# Altium footprint library Mini-Circuits.PcbLib: 45 footprints (part 3 of 3)
Each footprint in its own frame and in the unit in brackets; x right, y up, seen from the top. Pads: shape width x height; smd on the part's side, far side on the other; paste and mask are expansions set on the pad; w line width, h text height; cw(c..) or ccw(c..) is an arc to the next point about the centre after c.
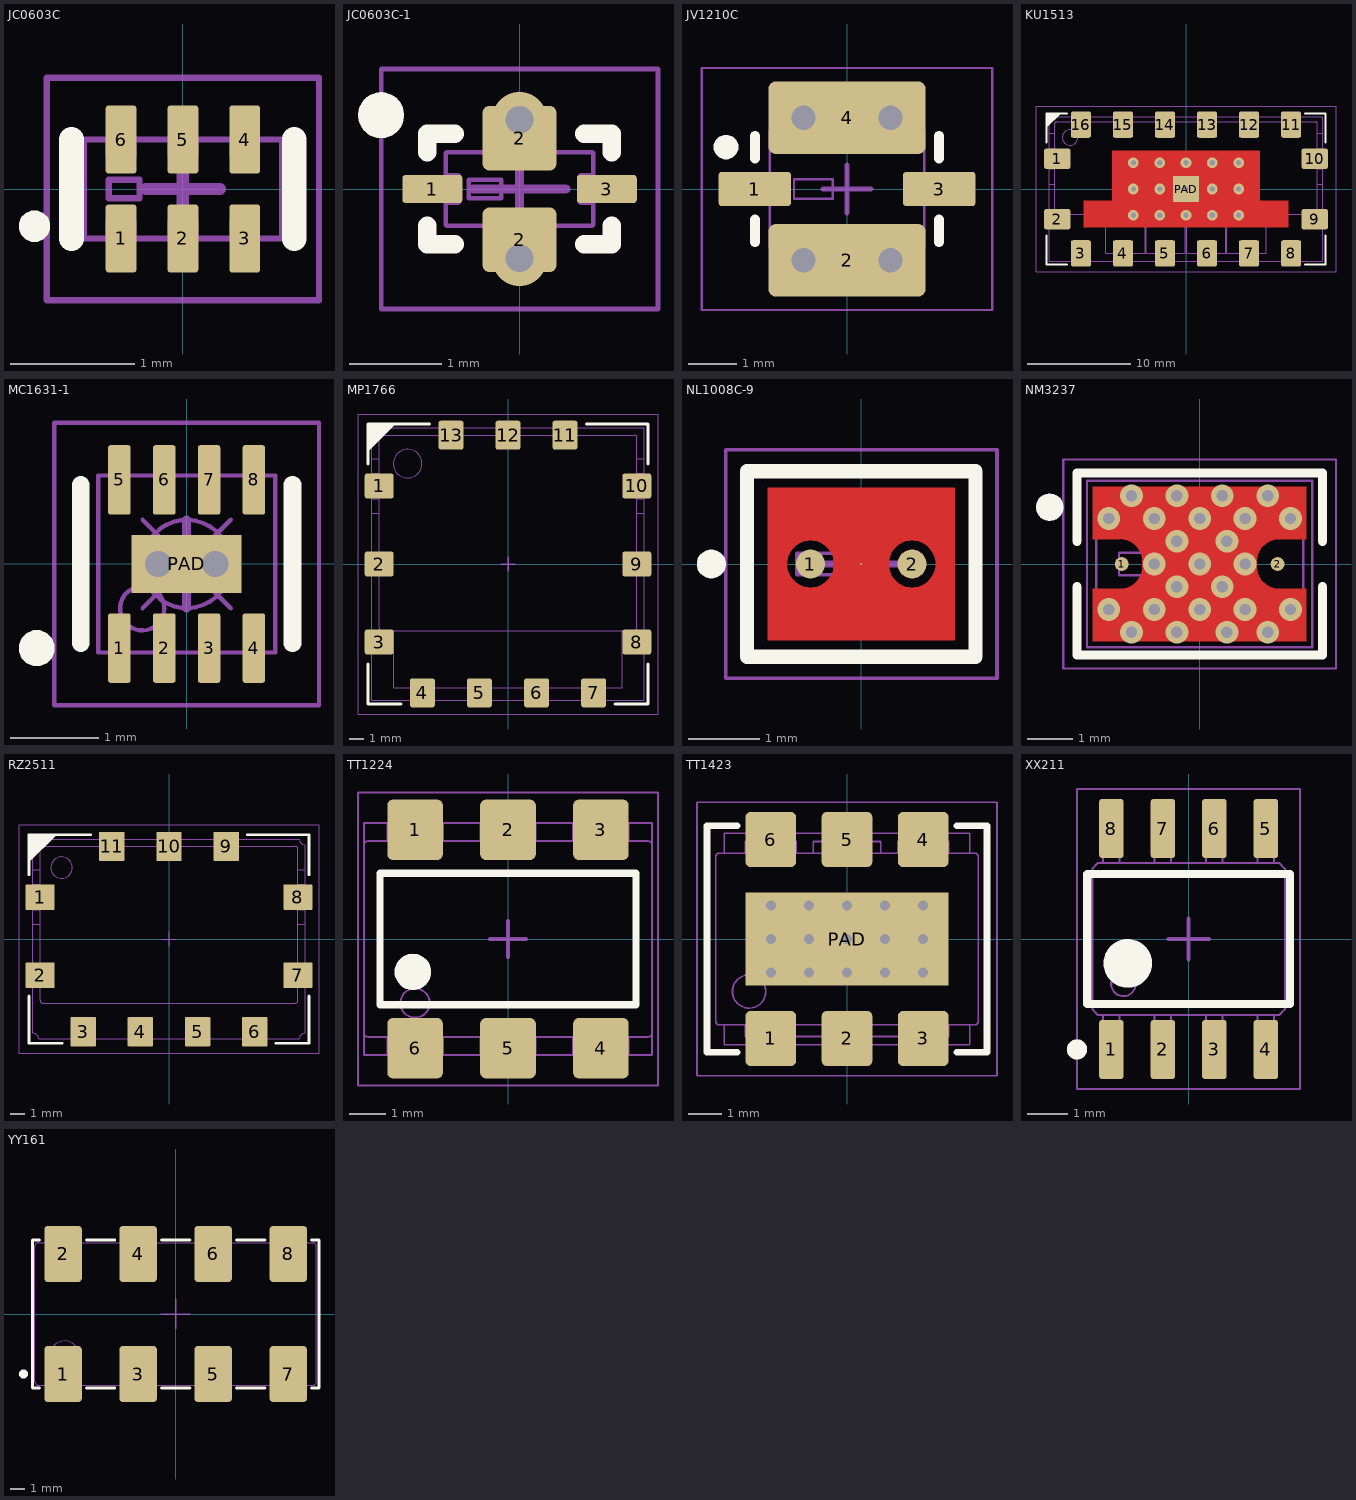
[diagram p2: the footprints below, top view; thin cyan lines are the x and y axes]

## JC0603C [mm] "Mini-Circuits JC0603C Package, 1.60x0.80mm, 6-Leads"
height 0.6
pads (6):
  rrect20% 0.25x0.55 smd: 1(-0.5,-0.4) 2(0,-0.4) 3(0.5,-0.4) 4(0.5,0.4) 5(0,0.4) 6(-0.5,0.4)
Top Overlay:
  region: -1.2,-0.425 -1.225,-0.425 -1.271,-0.406 -1.306,-0.371 -1.325,-0.325 -1.325,-0.3 -1.325,-0.275 -1.306,-0.229 -1.271,-0.194 -1.225,-0.175 -1.2,-0.175 -1.175,-0.175 -1.129,-0.194 -1.094,-0.229 -1.075,-0.275 -1.075,-0.3 -1.075,-0.325 -1.094,-0.371 -1.129,-0.406 -1.175,-0.425
  lines w0.2: -0.9,-0.4 -0.9,0.4 ; 0.9,-0.4 0.9,0.4
Mechanical 1:
  lines w0.05: -0.6,-0.4 -0.6,-0.275 cw(c-0.575,-0.275) -0.575,-0.25 -0.425,-0.25 cw(c-0.425,-0.275) -0.4,-0.275 -0.4,-0.4 ; -0.6,0.4 -0.6,0.275 ccw(c-0.575,0.275) -0.575,0.25 -0.425,0.25 ccw(c-0.425,0.275) -0.4,0.275 -0.4,0.4 ; -0.1,-0.4 -0.1,-0.275 cw(c-0.075,-0.275) -0.075,-0.25 0.075,-0.25 cw(c0.075,-0.275) 0.1,-0.275 0.1,-0.4 ; -0.1,0.4 -0.1,0.275 ccw(c-0.075,0.275) -0.075,0.25 0.075,0.25 ccw(c0.075,0.275) 0.1,0.275 0.1,0.4 ; 0.4,-0.4 0.4,-0.275 cw(c0.425,-0.275) 0.425,-0.25 0.575,-0.25 cw(c0.575,-0.275) 0.6,-0.275 0.6,-0.4 ; 0.4,0.4 0.4,0.275 ccw(c0.425,0.275) 0.425,0.25 0.575,0.25 ccw(c0.575,0.275) 0.6,0.275 0.6,0.4 ; -0.8,-0.39 ccw(c-0.79,-0.39) -0.79,-0.4 0.79,-0.4 ccw(c0.79,-0.39) 0.8,-0.39 0.8,0.39 ccw(c0.79,0.39) 0.79,0.4 -0.79,0.4 ccw(c-0.79,0.39) -0.8,0.39 -0.8,-0.39 ; -0.6,-0.075 -0.35,-0.075 -0.35,0.075 -0.6,0.075 -0.6,-0.075
Mechanical 15:
  lines w0.05: -1.1,-0.9 -1.1,0.9 1.1,0.9 1.1,-0.9 -1.1,-0.9
  lines w0.1: -0.3,0 0.3,0 ; 0,-0.3 0,0.3
3D body "Mini-Circuits_JC0603C.STEP": height 0.6, standoff 0, extent -0.8,-0.4 0.8,0.4

## JC0603C-1 [mm] "Mini-Circuits JC0603C-1 Case, 1.60x0.80mm, 4-Leads"
height 0.6
pads (5):
  rrect20% 0.65x0.3 smd: 1(-0.945,0) 3(0.945,0)
  rrect20% 0.8x0.7 smd: 2(0,-0.55) 2(0,0.55)
  round 0.5 on Top Overlay: ""(-1.5,0.8)
via 0,-0.75 diameter 0.6 hole 0.3
via 0,0.75 diameter 0.6 hole 0.3
Top Overlay:
  lines w0.2: -1,-0.4 -1,-0.6 -0.7,-0.6 ; -1,0.4 -1,0.6 -0.7,0.6 ; 0.7,-0.6 1,-0.6 1,-0.4 ; 0.7,0.6 1,0.6 1,0.4
Mechanical 1:
  lines w0.05: -0.8,-0.15 -0.675,-0.15 ccw(c-0.675,-0.125) -0.65,-0.125 -0.65,0.125 ccw(c-0.675,0.125) -0.675,0.15 -0.8,0.15 ; -0.35,-0.4 -0.35,-0.275 cw(c-0.325,-0.275) -0.325,-0.25 0.325,-0.25 cw(c0.325,-0.275) 0.35,-0.275 0.35,-0.4 ; -0.35,0.4 -0.35,0.275 ccw(c-0.325,0.275) -0.325,0.25 0.325,0.25 ccw(c0.325,0.275) 0.35,0.275 0.35,0.4 ; 0.8,-0.15 0.675,-0.15 cw(c0.675,-0.125) 0.65,-0.125 0.65,0.125 cw(c0.675,0.125) 0.675,0.15 0.8,0.15 ; -0.8,-0.375 ccw(c-0.775,-0.375) -0.775,-0.4 0.775,-0.4 ccw(c0.775,-0.375) 0.8,-0.375 0.8,0.375 ccw(c0.775,0.375) 0.775,0.4 -0.775,0.4 ccw(c-0.775,0.375) -0.8,0.375 -0.8,-0.375 ; -0.55,-0.1 -0.2,-0.1 -0.2,0.1 -0.55,0.1 -0.55,-0.1
Mechanical 15:
  lines w0.05: -1.5,-1.3 1.5,-1.3 1.5,1.3 -1.5,1.3 -1.5,-1.3
  lines w0.1: -0.5,0 0.5,0 ; 0,-0.5 0,0.5
3D body "Mini-Circuits_JC0603C-1.STEP": height 0.6, standoff 0, extent -0.8,-0.4 0.8,0.4

## JV1210C [mil] "Mini-Circuits JV1210C Package, 3.20x2.50mm, 4-Lead"
height 59.06
pads (4):
  rrect20% 59x28 smd: 1(-75,0) 3(75,0)
  rrect20% 128x59.02 smd: 2(0,-58.01) 4(0,58.01)
via -35.43,58.01 diameter 39.37 hole 19.68
via 35.43,58.01 diameter 39.37 hole 19.68
via -35.43,-58.01 diameter 39.37 hole 19.68
via 35.43,-58.01 diameter 39.37 hole 19.68
Top Overlay:
  region: -98.43,43.9 -100.38,43.9 -104,42.4 -106.77,39.63 -108.27,36.01 -108.27,32.1 -106.77,28.48 -104,25.71 -100.38,24.21 -98.43,24.21 -96.47,24.21 -92.85,25.71 -90.08,28.48 -88.58,32.1 -88.58,36.01 -90.08,39.63 -92.85,42.4 -96.47,43.9
  lines w7.87: -74.8,-43.31 -74.8,-24.8 ; -74.8,24.8 -74.8,43.31 ; 74.8,-43.31 74.8,-24.8 ; 74.8,24.8 74.8,43.31
Mechanical 1:
  lines w1.97: -63,-33 63,-33 ; -63,-12 -51,-12 -51,12 -63,12 ; -63,33 63,33 ; 63,-12 51,-12 51,12 63,12 ; -63,-47.03 ccw(c-61.03,-47.03) -61.03,-49 61.03,-49 ccw(c61.03,-47.03) 63,-47.03 63,47.03 ccw(c61.03,47.03) 61.03,49 -61.03,49 ccw(c-61.03,47.03) -63,47.03 -63,-47.03 ; -43.13,-7.87 -43.13,7.87 -11.63,7.87 -11.63,-7.87 -43.13,-7.87
Mechanical 15:
  lines w1.97: -118.11,-98.43 118.11,-98.43 118.11,98.43 -118.11,98.43 -118.11,-98.43
  lines w3.94: -19.68,0 19.68,0 ; 0,-19.68 0,19.68
3D body "Mini-Circuits_JV1210C.STEP": height 59, standoff 0, extent -63,-49 63,49

## KU1513 [mil] "Mini-Circuts KU1513 Package, 26.24x13.97mm, 16 Leads"
height 185.04
pads (17):
  rrect20% 100x77 smd: 1(-490,115) 2(-490,-115) 9(490,-115) 10(490,115)
  rrect20% 77x100 smd: 3(-400,-245) 4(-240,-245) 5(-80,-245) 6(80,-245) 7(240,-245) 8(400,-245) 11(400,245) 12(240,245) 13(80,245) 14(-80,245) 15(-240,245) 16(-400,245)
  rect 100x100 smd: PAD(0,0)
via -200,-100 diameter 40 hole 20
via -200,0 diameter 40 hole 20
via -200,100 diameter 40 hole 20
via -100,100 diameter 40 hole 20
via -100,0 diameter 40 hole 20
via -100,-100 diameter 40 hole 20
via 0,-100 diameter 40 hole 20
via 0,0 diameter 40 hole 20
via 0,100 diameter 40 hole 20
via 100,100 diameter 40 hole 20
via 100,0 diameter 40 hole 20
via 100,-100 diameter 40 hole 20
via 200,-100 diameter 40 hole 20
via 200,0 diameter 40 hole 20
via 200,100 diameter 40 hole 20
Top Layer:
  region: -390,-145 -390,-45 -280,-45 -280,145 280,145 280,-45 390,-45 390,-145
Top Overlay:
  region: -531.5,287.4 -531.5,236.22 -480.31,287.4
  lines w7.87: -531.5,-177.17 -531.5,-287.4 -452.76,-287.4 ; -531.5,177.17 -531.5,287.4 -452.76,287.4 ; -531.5,236.22 -480.31,287.4 ; 452.76,-287.4 531.5,-287.4 531.5,-177.17 ; 452.76,287.4 531.5,287.4 531.5,177.17
Mechanical 1:
  circle w1.97: c-441.26,196.26 r29.53
  lines w1.97: -520,17.5 -500.31,17.5 ; -520,76.5 -500.31,76.5 ; -520,153.5 -500.31,153.5 ; -520,212.5 -500.31,212.5 ; -305.12,-95.31 -305.12,-244.92 -155.51,-244.92 -155.51,-95.31 ; -151.57,-95.31 -151.57,-244.92 -1.97,-244.92 -1.97,-95.31 ; 1.97,-95.31 1.97,-244.92 151.57,-244.92 151.57,-95.31 ; 155.51,-95.31 155.51,-244.92 305.12,-244.92 305.12,-95.31 ; 500.31,17.5 520,17.5 ; 500.31,76.5 520,76.5 ; 500.31,153.5 520,153.5 ; 500.31,212.5 520,212.5 ; -520,-275 -520,-130.75 ccw(c-520,-115) -520,-99.25 -520,99.25 ccw(c-520,115) -520,130.75 -520,275 -415.75,275 ccw(c-400,275) -384.25,275 -255.75,275 ccw(c-240,275) -224.25,275 -95.75,275 ccw(c-80,275) -64.25,275 64.25,275 ccw(c80,275) 95.75,275 224.25,275 ccw(c240,275) 255.75,275 384.25,275 ccw(c400,275) 415.75,275 520,275 520,130.75 ccw(c520,115) 520,99.25 520,-99.25 ccw(c520,-115) 520,-130.75 520,-275 415.75,-275 ccw(c400,-275) 384.25,-275 255.75,-275 ccw(c240,-275) 224.25,-275 95.75,-275 ccw(c80,-275) 64.25,-275 -64.25,-275 ccw(c-80,-275) -95.75,-275 -224.25,-275 ccw(c-240,-275) -255.75,-275 -384.25,-275 ccw(c-400,-275) -415.75,-275 -520,-275 ; -500.31,-87.44 ccw(c-492.44,-87.44) -492.44,-95.31 492.44,-95.31 ccw(c492.44,-87.44) 500.31,-87.44 500.31,247.44 ccw(c492.44,247.44) 492.44,255.31 -492.44,255.31 ccw(c-492.44,247.44) -500.31,247.44 -500.31,-87.44
Mechanical 15:
  lines w1.97: -570.87,-314.96 -570.87,314.96 570.87,314.96 570.87,-314.96 -570.87,-314.96
  lines w3.94: -19.68,0 19.68,0 ; 0,-19.68 0,19.68
3D body "Mini-Circuits_KU1513.STEP": height 186.14, standoff 0, extent -520,-275 520,275

## MC1631-1 [mil] "Mini-Circuits MC1631-1 Packaage, 2.00x2.00mm, EP 1.25x0.65mm, 8 Leads"
height 41.34
pads (9):
  rrect20% 10x31 smd: 1(-30,-37.5) 2(-10,-37.5) 3(10,-37.5) 4(30,-37.5) 5(-30,37.5) 6(-10,37.5) 7(10,37.5) 8(30,37.5)
  rect 49x25.98 smd: PAD(0,0)
via 12.69,0 diameter 23.62 hole 11.81
via -12.69,0 diameter 23.62 hole 11.81
Top Overlay:
  region: -66.93,-45.37 -68.5,-45.37 -71.39,-44.18 -73.6,-41.96 -74.8,-39.07 -74.8,-37.5 -74.8,-35.93 -73.6,-33.04 -71.39,-30.82 -68.5,-29.63 -66.93,-29.63 -65.36,-29.63 -62.47,-30.82 -60.25,-33.04 -59.05,-35.93 -59.05,-37.5 -59.05,-39.07 -60.25,-41.96 -62.47,-44.18 -65.36,-45.37
  lines w7.87: -47.24,-35.43 -47.24,35.43 ; 47.24,-35.43 47.24,35.43
Mechanical 1:
  circle w1.97: c-19.82,-19.82 r9.84
  lines w1.97: -39.5,-39.5 -39.5,39.5 39.5,39.5 39.5,-39.5 -39.5,-39.5
Mechanical 7:
  circle w1.97: c0,0 r19.68
  lines w1.97: -19.68,-19.68 19.68,19.68 ; -19.68,19.68 19.68,-19.68
Mechanical 15:
  lines w1.97: -59.06,-62.99 -59.06,62.99 59.06,62.99 59.06,-62.99 -59.06,-62.99
  lines w3.94: -19.68,0 19.68,0 ; 0,-19.68 0,19.68
3D body "Mini-Circuits_MC1631-1.STEP": height 41, standoff 0, extent -39.5,-39.5 39.5,39.5

## MP1766 [mm] "Mini-Circuts MP1766 Package, 19.05x19.05mm, 13 Leads"
height 5.33
pads (13):
  rrect20% 2.035x1.75 smd: 1(-9.018,5.461) 2(-9.018,0) 3(-9.018,-5.461) 8(9.015,-5.461) 9(9.015,0) 10(9.015,5.461)
  rrect20% 1.75x2.035 smd: 4(-5.994,-9.018) 5(-2.007,-9.018) 6(2.007,-9.018) 7(5.994,-9.018) 11(3.988,9.017) 12(0,9.017) 13(-3.988,9.017)
Top Overlay:
  region: -9.8,9.8 -9.8,8 -8,9.8
  lines w0.2: -9.8,-7 -9.8,-9.8 -7.5,-9.8 ; -9.8,7 -9.8,9.8 -5.5,9.8 ; -9.8,8 -8,9.8 ; 5.5,9.8 9.8,9.8 9.8,7 ; 7.5,-9.8 9.8,-9.8 9.8,-7
Mechanical 1:
  circle w0.05: c-7.025,7.025 r1
  lines w0.05: -9.525,3.569 -9.025,3.569 ; -9.525,4.585 -9.025,4.585 ; -9.525,6.337 -9.025,6.337 ; -9.525,7.353 -9.025,7.353 ; -8,-4.661 -8,-8.661 8,-8.661 8,-4.661 ; 9.025,3.569 9.525,3.569 ; 9.025,4.585 9.525,4.585 ; 9.025,6.337 9.525,6.337 ; 9.025,7.353 9.525,7.353 ; -9.525,-9.525 -6.394,-9.525 cw(c-5.994,-9.525) -5.594,-9.525 -2.407,-9.525 cw(c-2.007,-9.525) -1.607,-9.525 1.607,-9.525 cw(c2.007,-9.525) 2.407,-9.525 5.594,-9.525 cw(c5.994,-9.525) 6.394,-9.525 9.525,-9.525 9.525,-5.861 cw(c9.525,-5.461) 9.525,-5.061 9.525,-0.4 cw(c9.525,0) 9.525,0.4 9.525,5.061 cw(c9.525,5.461) 9.525,5.861 9.525,9.525 4.388,9.525 cw(c3.988,9.525) 3.588,9.525 0.4,9.525 cw(c0,9.525) -0.4,9.525 -3.588,9.525 cw(c-3.988,9.525) -4.388,9.525 -9.525,9.525 -9.525,5.861 cw(c-9.525,5.461) -9.525,5.061 -9.525,0.4 cw(c-9.525,0) -9.525,-0.4 -9.525,-5.061 cw(c-9.525,-5.461) -9.525,-5.861 -9.525,-9.525 ; -9.025,-4.461 ccw(c-8.825,-4.461) -8.825,-4.661 8.825,-4.661 ccw(c8.825,-4.461) 9.025,-4.461 9.025,8.825 ccw(c8.825,8.825) 8.825,9.025 -8.825,9.025 ccw(c-8.825,8.825) -9.025,8.825 -9.025,-4.461
Mechanical 15:
  lines w0.05: -10.5,-10.5 10.5,-10.5 10.5,10.5 -10.5,10.5 -10.5,-10.5
  lines w0.1: -0.5,0 0.5,0 ; 0,-0.5 0,0.5
3D body "Mini-Circuits_MP1766.STEP": height 5.33, standoff 0, extent -9.525,-9.525 9.525,9.525

## NL1008C-9 [mil] "Mini-Circuits NL1008C-9 Package, 2.50x2.00mm, 2-Lead"
height 27.56
pads (3):
  round 16 smd: 1(-28,0) 2(28,0)
  round 1 smd: PAD(0,0)
Top Layer:
  region: 51.5,42 51.5,0 41,0 40.94,1.27 40.44,3.77 39.46,6.13 38.05,8.25 36.24,10.05 34.12,11.46 31.77,12.44 29.27,12.93 28,13 26.72,12.94 24.22,12.44 21.87,11.46 19.75,10.05 17.95,8.25 16.53,6.13 15.56,3.77 15.06,1.27 15.06,-1.27 15.55,-3.77 16.53,-6.13 17.95,-8.25 19.75,-10.05 21.87,-11.47 24.22,-12.44 26.72,-12.94 28,-13 29.27,-12.94 31.77,-12.44 34.12,-11.47 36.24,-10.05 38.05,-8.25 39.46,-6.13 40.44,-3.78 40.93,-1.28 41,0 51.5,0 51.5,-42 27.99,-42 -28,-42 -51.5,-42 -51.5,0 -41.01,-0.01 -40.95,-1.29 -40.45,-3.78 -39.47,-6.14 -38.05,-8.25 -36.25,-10.05 -34.13,-11.47 -31.77,-12.44 -29.27,-12.94 -28,-13 -26.73,-12.94 -24.23,-12.44 -21.87,-11.46 -19.75,-10.05 -17.95,-8.25 -16.54,-6.13 -15.56,-3.77 -15.07,-1.28 -15.07,1.27 -15.56,3.77 -16.54,6.13 -17.95,8.24 -19.76,10.05 -21.87,11.46 -24.23,12.44 -26.73,12.93 -28,13 -29.27,12.93 -31.77,12.44 -34.13,11.46 -36.25,10.04 -38.05,8.24 -39.46,6.12 -40.43,3.76 -40.93,1.26 -40.99,-0.01 -51.5,0 -51.5,42 -28,42 28,42
Top Overlay:
  region: -82.68,7.87 -83.71,7.87 -85.72,7.34 -87.51,6.3 -88.98,4.83 -90.01,3.04 -90.55,1.04 -90.55,-1.04 -90.01,-3.04 -88.98,-4.83 -87.51,-6.3 -85.72,-7.34 -83.71,-7.87 -82.68,-7.87 -81.64,-7.87 -79.64,-7.34 -77.84,-6.3 -76.38,-4.83 -75.34,-3.04 -74.8,-1.04 -74.8,1.04 -75.34,3.04 -76.38,4.83 -77.84,6.3 -79.64,7.34 -81.64,7.87
  lines w7.87: -62.99,-51.18 62.99,-51.18 62.99,51.18 -62.99,51.18 -62.99,-51.18
Mechanical 1:
  lines w1.97: -49.21,-39.37 -49.21,39.37 49.21,39.37 49.21,-39.37 -49.21,-39.37 ; -47.24,-37.4 -47.24,37.4 47.24,37.4 47.24,-37.4 -47.24,-37.4 ; -35.43,-5.91 -35.43,5.91 -11.81,5.91 -11.81,-5.91 -35.43,-5.91
Mechanical 15:
  lines w1.97: -74.8,-62.99 -74.8,62.99 74.8,62.99 74.8,-62.99 -74.8,-62.99
  lines w3.94: -19.68,0 19.68,0 ; 0,-19.68 0,19.68
3D body "Mini-Circuits_NL1008C-9.STEP": height 27.56, standoff 0, extent -49.21,-39.37 49.21,39.37

## NM3237 [mil] "Mini-Circuts NM3237 Package, 4.95x3.65mm, 3 Leads"
height 72.05
pads (3):
  round 12 smd: 1(-67.5,0) 2(67.5,0)
  round 1 smd: 3(0,0)
via 78.74,-39.37 diameter 19.68 hole 9.84
via 39.37,-39.37 diameter 19.68 hole 9.84
via 0,-39.37 diameter 19.68 hole 9.84
via -39.37,-39.37 diameter 19.68 hole 9.84
via -78.74,-39.37 diameter 19.68 hole 9.84
via 39.37,0 diameter 19.68 hole 9.84
via 0,0 diameter 19.68 hole 9.84
via -39.37,0 diameter 19.68 hole 9.84
via 78.74,39.37 diameter 19.68 hole 9.84
via 39.37,39.37 diameter 19.68 hole 9.84
via 0,39.37 diameter 19.68 hole 9.84
via -39.37,39.37 diameter 19.68 hole 9.84
via -78.74,39.37 diameter 19.68 hole 9.84
via -19.68,19.68 diameter 19.68 hole 9.84
via 23.62,19.68 diameter 19.68 hole 9.84
via 19.68,-19.68 diameter 19.68 hole 9.84
via -19.68,-19.68 diameter 19.68 hole 9.84
via -59.06,-59.05 diameter 19.68 hole 9.84
via -19.68,-59.05 diameter 19.68 hole 9.84
via 23.62,-59.06 diameter 19.68 hole 9.84
via 59.06,-59.05 diameter 19.68 hole 9.84
via -59.06,59.05 diameter 19.68 hole 9.84
via -19.68,59.05 diameter 19.68 hole 9.84
via 19.69,59.05 diameter 19.68 hole 9.84
via 59.06,59.05 diameter 19.68 hole 9.84
Top Layer:
  region: -92.5,-21.5 -69,-21.5 -67.09,-21.41 -63.34,-20.66 -59.81,-19.2 -56.63,-17.07 -53.93,-14.37 -51.8,-11.19 -50.34,-7.66 -49.59,-3.91 -49.5,-2 -49.5,2 -49.59,3.91 -50.34,7.66 -51.8,11.19 -53.93,14.37 -56.63,17.07 -59.81,19.2 -63.34,20.66 -67.09,21.41 -69,21.5 -92.5,21.5 -92.5,66.93 92.5,66.93 92.5,21.5 69,21.5 67.09,21.41 63.34,20.66 59.81,19.2 56.63,17.07 53.93,14.37 51.8,11.19 50.34,7.66 49.59,3.91 49.5,2 49.5,-2 49.59,-3.91 50.34,-7.66 51.8,-11.19 53.93,-14.37 56.63,-17.07 59.81,-19.2 63.34,-20.66 67.09,-21.41 69,-21.5 92.5,-21.5 92.5,-66.93 -92.5,-66.93
Top Overlay:
  region: -129.92,61.02 -131.08,61.02 -133.37,60.57 -135.52,59.68 -137.45,58.39 -139.1,56.74 -140.39,54.81 -141.28,52.66 -141.73,50.38 -141.73,48.05 -141.28,45.77 -140.39,43.62 -139.1,41.68 -137.45,40.04 -135.52,38.75 -133.37,37.86 -131.08,37.4 -129.92,37.4 -128.76,37.4 -126.48,37.86 -124.33,38.75 -122.39,40.04 -120.75,41.68 -119.45,43.62 -118.56,45.77 -118.11,48.05 -118.11,50.38 -118.56,52.66 -119.45,54.81 -120.75,56.74 -122.39,58.39 -124.33,59.68 -126.48,60.57 -128.76,61.02
  lines w7.87: -106.3,-19.68 -106.3,-78.74 106.3,-78.74 106.3,-19.68 ; -106.3,19.68 -106.3,78.74 106.3,78.74 106.3,19.68
Mechanical 1:
  lines w1.97: -97.5,-72 -97.5,72 97.5,72 97.5,-72 -97.5,-72 ; -89.63,-60.19 ccw(c-85.69,-60.19) -85.69,-64.13 85.69,-64.13 ccw(c85.69,-60.19) 89.63,-60.19 89.63,60.19 ccw(c85.69,60.19) 85.69,64.13 -85.69,64.13 ccw(c-85.69,60.19) -89.63,60.19 -89.63,-60.19 ; -69.94,-9.84 -69.94,9.84 -30.57,9.84 -30.57,-9.84 -69.94,-9.84
Mechanical 15:
  lines w1.97: -118.11,-90.55 118.11,-90.55 118.11,90.55 -118.11,90.55 -118.11,-90.55
  lines w3.94: -19.68,0 19.68,0 ; 0,-19.68 0,19.68
3D body "Mini-Circuits_NM3237.STEP": height 65.67, standoff 0, extent -97.5,-72 97.5,72

## RZ2511 [mil] "Mini-Circuts RZ2511 Package, 19.05x14.00mm, 11 leads"
height 175.2
pads (11):
  rrect5% 80x70 smd: 1(-355,115.5) 2(-355,-99.5) 7(355,-99.5) 8(355,115.5)
  rrect5% 70x80 smd: 3(-236.25,-255.6) 4(-78.75,-255.6) 5(78.75,-255.6) 6(236.25,-255.6) 9(157.5,255.5) 10(0,255.5) 11(-157.5,255.5)
Top Overlay:
  region: -385.83,287.4 -385.83,216.54 -314.96,287.4
  lines w7.87: -385.83,-157.48 -385.83,-287.4 -295.28,-287.4 ; -385.83,177.17 -385.83,287.4 -216.54,287.4 ; -385.83,216.54 -314.96,287.4 ; 216.54,287.4 385.83,287.4 385.83,177.17 ; 295.28,-287.4 385.83,-287.4 385.83,-157.48
Mechanical 1:
  circle w1.97: c-296.26,196.76 r29.53
  lines w1.97: -375,40.5 -355.31,40.5 ; -375,80.5 -355.31,80.5 ; -375,150.5 -355.31,150.5 ; -375,190.5 -355.31,190.5 ; 355.31,40.5 375,40.5 ; 355.31,80.5 375,80.5 ; 355.31,150.5 375,150.5 ; 355.31,190.5 375,190.5 ; -375,-259.75 cw(c-375,-275.5) -359.25,-275.5 -252,-275.5 cw(c-236.25,-275.5) -220.5,-275.5 -94.5,-275.5 cw(c-78.75,-275.5) -63,-275.5 63,-275.5 cw(c78.75,-275.5) 94.5,-275.5 220.5,-275.5 cw(c236.25,-275.5) 252,-275.5 359.25,-275.5 cw(c375,-275.5) 375,-259.75 375,-115.25 cw(c375,-99.5) 375,-83.75 375,99.75 cw(c375,115.5) 375,131.25 375,259.75 cw(c375,275.5) 359.25,275.5 173.25,275.5 cw(c157.5,275.5) 141.75,275.5 15.75,275.5 cw(c0,275.5) -15.75,275.5 -141.75,275.5 cw(c-157.5,275.5) -173.25,275.5 -359.25,275.5 cw(c-375,275.5) -375,259.75 -375,131.25 cw(c-375,115.5) -375,99.75 -375,-83.75 cw(c-375,-99.5) -375,-115.25 -375,-259.75 ; -355.31,-169.2 ccw(c-347.44,-169.2) -347.44,-177.07 347.44,-177.07 ccw(c347.44,-169.2) 355.31,-169.2 355.31,247.94 ccw(c347.44,247.94) 347.44,255.81 -347.44,255.81 ccw(c-347.44,247.94) -355.31,247.94 -355.31,-169.2
Mechanical 15:
  lines w1.97: -19.68,0 19.68,0 ; 0,-19.68 0,19.68 ; -413.39,-314.96 -413.39,314.96 413.39,314.96 413.39,-314.96 -413.39,-314.96
3D body "Mini-Circuits_RZ2511.STEP": height 175.2, standoff 0, extent -375,-275.5 375,275.5

## TT1224 [mm] "Mini-Circuits TT1224 Package, 6.35x7.87mm, 6-Leads"
height 4.06
pads (7):
  rrect20% 1.52x1.65 smd: 1(-2.54,2.985) 2(0,2.985) 3(2.54,2.985) 4(2.54,-2.985) 5(0,-2.985) 6(-2.54,-2.985)
  round 1 on Top Overlay: ""(-2.6,-0.9)
Top Overlay:
  lines w0.2: -3.5,-1.8 3.5,-1.8 3.5,1.8 -3.5,1.8 -3.5,-1.8
Mechanical 1:
  circle w0.05: c-2.54,-1.75 r0.4
  lines w0.05: -3.935,-2.575 ccw(c-3.835,-2.575) -3.835,-2.675 3.835,-2.675 ccw(c3.835,-2.575) 3.935,-2.575 ; -3.935,2.575 cw(c-3.835,2.575) -3.835,2.675 3.835,2.675 cw(c3.835,2.575) 3.935,2.575 ; -3.3,-3.175 -3.3,-2.675 ; -3.3,2.675 -3.3,3.175 ; -1.78,-3.175 -1.78,-2.675 ; -1.78,2.675 -1.78,3.175 ; -0.761,2.675 -0.761,3.175 ; -0.76,-3.175 -0.76,-2.675 ; 0.76,-3.175 0.76,-2.675 ; 0.759,2.675 0.759,3.175 ; 1.78,-3.175 1.78,-2.675 ; 1.78,2.675 1.78,3.175 ; 3.3,-3.175 3.3,-2.675 ; 3.3,2.675 3.3,3.175 ; -3.935,-3.175 -3.04,-3.175 cw(c-2.54,-3.175) -2.04,-3.175 -0.5,-3.175 cw(c0,-3.175) 0.5,-3.175 2.04,-3.175 cw(c2.54,-3.175) 3.04,-3.175 3.935,-3.175 3.935,3.175 3.04,3.175 cw(c2.54,3.175) 2.04,3.175 0.499,3.175 cw(c-0.001,3.175) -0.501,3.175 -2.04,3.175 cw(c-2.54,3.175) -3.04,3.175 -3.935,3.175 -3.935,-3.175
Mechanical 15:
  lines w0.05: -4.1,-4 4.1,-4 4.1,4 -4.1,4 -4.1,-4
  lines w0.1: -0.5,0 0.5,0 ; 0,-0.5 0,0.5
3D body "Mini-Circuits_TT1224.STEP": height 4.06, standoff 0, extent -3.935,-3.175 3.935,3.175

## TT1423 [mil] "Mini-Circuits TT1423 Package, 7.87x6.35mm, Exposed Pad 6.096x2.794mm, 6-Leads"
height 150
pads (7):
  rrect20% 60x65 smd: 1(-90,-117.5) 2(0,-117.5) 3(90,-117.5) 4(90,117.5) 5(0,117.5) 6(-90,117.5)
  rect 240x110 smd: PAD(0,0)
via 0,0 diameter 23.62 hole 11.81
via -45,0 diameter 23.62 hole 11.81
via -90,0 diameter 23.62 hole 11.81
via 45,0 diameter 23.62 hole 11.81
via 90,0 diameter 23.62 hole 11.81
via 90,39.37 diameter 23.62 hole 11.81
via 45,39.37 diameter 23.62 hole 11.81
via 0,39.37 diameter 23.62 hole 11.81
via -45,39.37 diameter 23.62 hole 11.81
via -90,39.37 diameter 23.62 hole 11.81
via -90,-39.37 diameter 23.62 hole 11.81
via -45,-39.37 diameter 23.62 hole 11.81
via 0,-39.37 diameter 23.62 hole 11.81
via 45,-39.37 diameter 23.62 hole 11.81
via 90,-39.37 diameter 23.62 hole 11.81
Top Overlay:
  lines w7.87: -129.92,-133.86 -165.35,-133.86 -165.35,133.86 -129.92,133.86 ; 129.92,-133.86 165.35,-133.86 165.35,133.86 129.92,133.86
Mechanical 1:
  circle w1.97: c-115.63,-62.01 r19.68
  lines w1.97: -145,-101.38 -145,-125 -109.69,-125 cw(c-90,-125) -70.31,-125 -19.68,-125 cw(c0,-125) 19.68,-125 70.31,-125 cw(c90,-125) 109.69,-125 145,-125 145,-101.38 ; -145,101.38 -145,125 -109.69,125 ccw(c-90,125) -70.31,125 -19.68,125 ccw(c0,125) 19.68,125 70.31,125 ccw(c90,125) 109.69,125 145,125 145,101.38 ; -120,-101.38 -120,-115.16 -107.05,-115.16 ; -120,101.38 -120,115.16 -107.05,115.16 ; -72.95,-115.16 -17.05,-115.16 ; -72.95,115.16 -60,115.16 -60,101.38 ; -40,101.38 -40,115.16 -17.05,115.16 ; 17.05,-115.16 72.95,-115.16 ; 17.05,115.16 40,115.16 40,101.38 ; 60,101.38 60,115.16 72.95,115.16 ; 107.05,-115.16 120,-115.16 120,-101.38 ; 107.05,115.16 120,115.16 120,101.38 ; -155,-97.44 ccw(c-151.06,-97.44) -151.06,-101.38 151.06,-101.38 ccw(c151.06,-97.44) 155,-97.44 155,97.44 ccw(c151.06,97.44) 151.06,101.38 -151.06,101.38 ccw(c-151.06,97.44) -155,97.44 -155,-97.44
Mechanical 15:
  lines w1.97: -19.68,0 19.68,0 ; 0,-19.68 0,19.68 ; -177.17,-161.42 177.17,-161.42 177.17,161.42 -177.17,161.42 -177.17,-161.42
3D body "Mini-Circuits_TT1423.STEP": height 149.29, standoff 0, extent -155,-125 155,125

## XX211 [mm] "Mini-Circuits XX211 Package, 8-Leads, Body 5.33x5.14mm, Pitch 1.27mm"
height 1.75
pads (8):
  rrect20% 0.6x1.45 smd: 1(-1.905,-2.725) 2(-0.635,-2.725) 3(0.635,-2.725) 4(1.905,-2.725) 5(1.905,2.725) 6(0.635,2.725) 7(-0.635,2.725) 8(-1.905,2.725)
Top Overlay:
  circle w0.6: c-1.5,-0.6 r0.3
  circle w0.25: c-2.755,-2.725 r0.125
  lines w0.2: -2.5,1.6 -2.5,-1.6 2.5,-1.6 2.5,1.6 -2.5,1.6
Mechanical 1:
  circle w0.05: c-1.61,-1.11 r0.3
  lines w0.05: -2.11,-1.875 -2.11,-3 -1.7,-3 -1.7,-1.875 ; -2.11,1.875 -2.11,3 -1.7,3 -1.7,1.875 ; -0.84,-1.875 -0.84,-3 -0.43,-3 -0.43,-1.875 ; -0.84,1.875 -0.84,3 -0.43,3 -0.43,1.875 ; 0.43,-1.875 0.43,-3 0.84,-3 0.84,-1.875 ; 0.43,1.875 0.43,3 0.84,3 0.84,1.875 ; 1.7,-1.875 1.7,-3 2.11,-3 2.11,-1.875 ; 1.7,1.875 1.7,3 2.11,3 2.11,1.875 ; -2.375,-1.737 -2.237,-1.875 2.238,-1.875 2.375,-1.737 2.375,1.737 2.237,1.875 -2.238,1.875 -2.375,1.737 -2.375,-1.737
Mechanical 15:
  lines w0.05: -2.75,-3.7 -2.75,3.7 2.75,3.7 2.75,-3.7 -2.75,-3.7
  lines w0.1: -0.5,0 0.5,0 ; 0,-0.5 0,0.5
3D body "SOIC-8_3.9x4.9mm_P1.27mm.step": height 1.75, standoff 0, extent -2.45,-3 2.45,3

## YY161 [mil] "Mini-Circuits YY161 Package, 19.05x9.65mm, 8-Leads"
pads (8):
  rrect20% 100x150 smd: 1(-300,-160) 2(-300,160) 3(-100,-160) 4(-100,160) 5(100,-160) 6(100,160) 7(300,-160) 8(300,160)
Top Overlay:
  region: -405.51,-148.19 -406.44,-148.19 -408.28,-148.48 -410.05,-149.05 -411.7,-149.9 -413.21,-150.99 -414.52,-152.31 -415.61,-153.81 -416.46,-155.47 -417.03,-157.23 -417.32,-159.07 -417.32,-160.93 -417.03,-162.77 -416.46,-164.53 -415.61,-166.19 -414.52,-167.69 -413.21,-169.01 -411.7,-170.1 -410.05,-170.95 -408.28,-171.52 -406.44,-171.81 -405.51,-171.81 -404.58,-171.81 -402.75,-171.52 -400.98,-170.95 -399.32,-170.1 -397.82,-169.01 -396.5,-167.69 -395.41,-166.19 -394.57,-164.53 -393.99,-162.77 -393.7,-160.93 -393.7,-159.07 -393.99,-157.23 -394.57,-155.47 -395.41,-153.81 -396.5,-152.31 -397.82,-150.99 -399.32,-149.9 -400.98,-149.05 -402.75,-148.48 -404.58,-148.19
  lines w7.87: -362.2,-196.85 -381.89,-196.85 -381.89,196.85 -362.2,196.85 ; -237.8,-196.85 -162.2,-196.85 ; -237.8,196.85 -162.2,196.85 ; -37.8,-196.85 37.8,-196.85 ; -37.8,196.85 37.8,196.85 ; 162.2,-196.85 237.8,-196.85 ; 162.2,196.85 237.8,196.85 ; 362.2,-196.85 381.89,-196.85 381.89,196.85 362.2,196.85
Mechanical 1:
  circle w1.97: c-296.26,-111.22 r39.37
  lines w1.97: -310.04,-189.96 -310.04,-225 -289.96,-225 -289.96,-189.96 ; -310.04,189.96 -310.04,225 -289.96,225 -289.96,189.96 ; -110.04,-189.96 -110.04,-225 -89.96,-225 -89.96,-189.96 ; -110.04,189.96 -110.04,225 -89.96,225 -89.96,189.96 ; 89.96,-189.96 89.96,-225 110.04,-225 110.04,-189.96 ; 89.96,189.96 89.96,225 110.04,225 110.04,189.96 ; 289.96,-189.96 289.96,-225 310.04,-225 310.04,-189.96 ; 289.96,189.96 289.96,225 310.04,225 310.04,189.96 ; -375,-180.12 ccw(c-365.16,-180.12) -365.16,-189.96 365.16,-189.96 ccw(c365.16,-180.12) 375,-180.12 375,180.12 ccw(c365.16,180.12) 365.16,189.96 -365.16,189.96 ccw(c-365.16,180.12) -375,180.12 -375,-180.12
Mechanical 15:
  lines w3.94: -39.37,0 39.37,0 ; 0,-39.37 0,39.37
3D body "Mini-Circuits_YY161.STEP": height 279.92, standoff 0, extent -375,-225 375,225